# EAGLE library part MIKROE-ALTITUDE-6-CLICK-DVC (library MIKROE-4903)
Device for the Mikroe Altitude 6 Click device
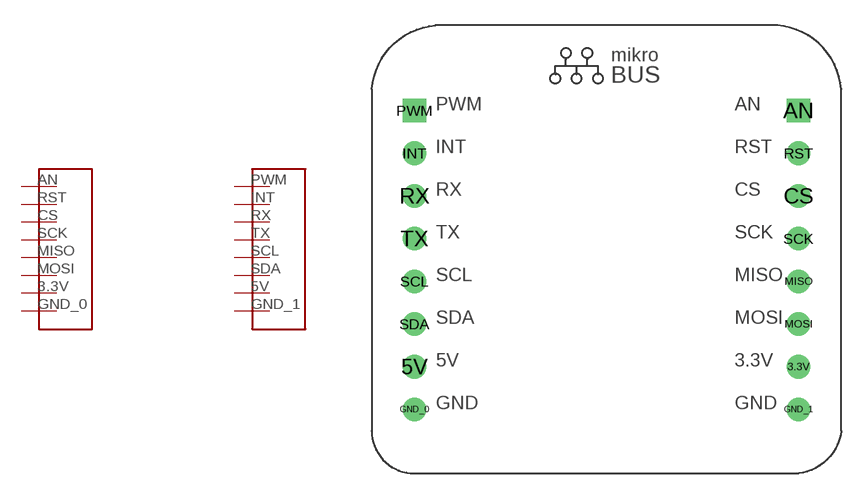
[diagram p0: symbol with the pads of MIKROE-ALTITUDE-6-CLICK-PINOUT; footprint MIKROE-ALTITUDE-6-CLICK-PINOUT]

Designator prefix -

## MIKROE-ALTITUDE-6-CLICK-DVC  [MIKROE-ALTITUDE-6-CLICK-PINOUT]
3.3V  3.3V
5V  5V
AN  AN
CS  CS
GND_0  GND_0
GND_1  GND_1
INT  INT
MISO  MISO
MOSI  MOSI
PWM  PWM
RST  RST
RX  RX
SCK  SCK
SCL  SCL
SDA  SDA
TX  TX

## Footprint MIKROE-ALTITUDE-6-CLICK-PINOUT (pad centres in mm)
Footprint of the Altitude 6 Click MikroBus pinout
drill 0.9: 3.3V 25.4,7.62; 5V 2.54,7.62; CS 25.4,17.78; GND_0 2.54,5.08; GND_1 25.4,5.08; INT 2.54,20.32; MISO 25.4,12.7; MOSI 25.4,10.16; RST 25.4,20.32; RX 2.54,17.78; SCK 25.4,15.24; SCL 2.54,12.7; SDA 2.54,10.16; TX 2.54,15.24
drill 0.9 square: AN 25.4,22.86; PWM 2.54,22.86